# EAGLE library part CONN-IDC-10P (library joakim)
10P IDC Header
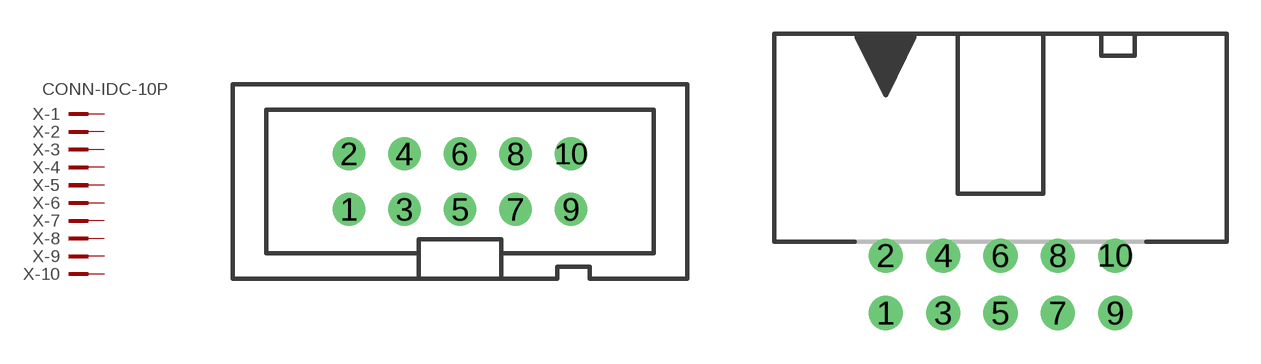
[diagram p51: symbol with the pads of CONN-IDC10P-S; footprints CONN-IDC10P-S, CONN-IDC10P-A]

Designator prefix X; gates -1=PINV -2=PIN -3=PIN -4=PIN -5=PIN -6=PIN -7=PIN -8=PIN -9=PIN -10=PIN

## CONN-IDC-10PS  [CONN-IDC10P-S]
1  -1:KL  pas
2  -2:KL  pas
3  -3:KL  pas
4  -4:KL  pas
5  -5:KL  pas
6  -6:KL  pas
7  -7:KL  pas
8  -8:KL  pas
9  -9:KL  pas
10  -10:KL  pas

## CONN-IDC-10PA (OC_FARNELL: 1788669; OC_NEWARK: unknown)  [CONN-IDC10P-A]
Pads as for CONN-IDC10P-S

## CONN-IDC-10PAN  [CONN-IDC10P-AN]
Pads as for CONN-IDC10P-S

## CONN-IDC-10PSMD  [CONN-IDC10P-SMD]
P$1  -1:KL  pas
P$2  -2:KL  pas
P$3  -3:KL  pas
P$4  -4:KL  pas
P$5  -5:KL  pas
P$6  -6:KL  pas
P$7  -7:KL  pas
P$8  -8:KL  pas
P$9  -9:KL  pas
P$10  -10:KL  pas

## Footprint CONN-IDC10P-S (pad centres in mm)
10p IDC Header Straight
drill 1 pad 1.422: 1 -5.08,-1.27; 2 -5.08,1.27; 3 -2.54,-1.27; 4 -2.54,1.27; 5 0,-1.27; 6 0,1.27; 7 2.54,-1.27; 8 2.54,1.27; 9 5.08,-1.27; 10 5.08,1.27

## Footprint CONN-IDC10P-A (pad centres in mm)
10P IDC Header Right Angle
drill 1 pad 1.422: 1 -5.08,-1.27; 2 -5.08,1.27; 3 -2.54,-1.27; 4 -2.54,1.27; 5 0,-1.27; 6 0,1.27; 7 2.54,-1.27; 8 2.54,1.27; 9 5.08,-1.27; 10 5.08,1.27

## Footprint CONN-IDC10P-AN (pad centres in mm)
10P IDC Header Right Angle Silk on tDocu only
drill 1 pad 1.422: 1 -5.08,-1.27; 2 -5.08,1.27; 3 -2.54,-1.27; 4 -2.54,1.27; 5 0,-1.27; 6 0,1.27; 7 2.54,-1.27; 8 2.54,1.27; 9 5.08,-1.27; 10 5.08,1.27

## Footprint CONN-IDC10P-SMD (pad centres in mm)
10p IDC Header Straight, SMD Sources: https://www.lcsc.com/datasheet/lcsc_datasheet_2304140030_XFCN-BH254VS-10P_C492446.pdf https://www.lcsc.com/datasheet/lcsc_datasheet_2108191430_Ckmtw-Shenzhen-Cankemeng-B-3000N10P-0110_C383605.pdf C492446: BH254VS-10P C383605: B-3000N10P-0110,
smd 1.02 x 4.2: P$1 -5.08,-3.3; P$2 -5.08,3.3; P$3 -2.54,-3.3; P$4 -2.54,3.3; P$5 0,-3.3; P$6 0,3.3; P$7 2.54,-3.3; P$8 2.54,3.3; P$9 5.08,-3.3; P$10 5.08,3.3